# Altium integrated library IRFS7530TRL7PP.IntLib: 1 symbol
Pins are listed as number, name and electrical type; pins without a type are passive.

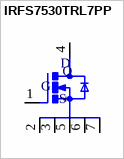
[diagram p0: symbol IRFS7530TRL7PP]

## IRFS7530TRL7PP
designator Q
RoHS Compliant | Improved Gate, Avalanche and Dynamic dV/dt Ruggedness | Fully Characterized Capacitance and Avalanche SOA | Enhanced body diode dV/dt and dI/dt Capability; MP: IRFS7530TRL7PP; MF: Infineon; Package: D2PAK Infineon; Price: None; Availability: Unavailable; Value: *; SnapEDA_Link: https://www.snapeda.com/parts/IRFS7530TRL7PP/Infineon%20Technologies/view-part/558270/?ref=snap
footprint TO127P1524X483-7N
pins: 1 G, 2 S@1, 3 S@2, 4 D, 5 S@3, 6 S@4, 7 S@5
text: S